# Altium schematic symbol library CONN-1.SchLib: 1 symbol
Pins are listed as number, name and electrical type; pins without a type are passive.

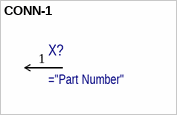
[diagram p0: symbol CONN-1]

## CONN-1
designator X?
pins: 1